# Altium footprint library Connectors.PcbLib: 32 footprints (part 1 of 2)
Each footprint in its own frame and in the unit in brackets; x right, y up, seen from the top. Pads: shape width x height; smd on the part's side, far side on the other; paste and mask are expansions set on the pad; w line width, h text height; cw(c..) or ccw(c..) is an arc to the next point about the centre after c.
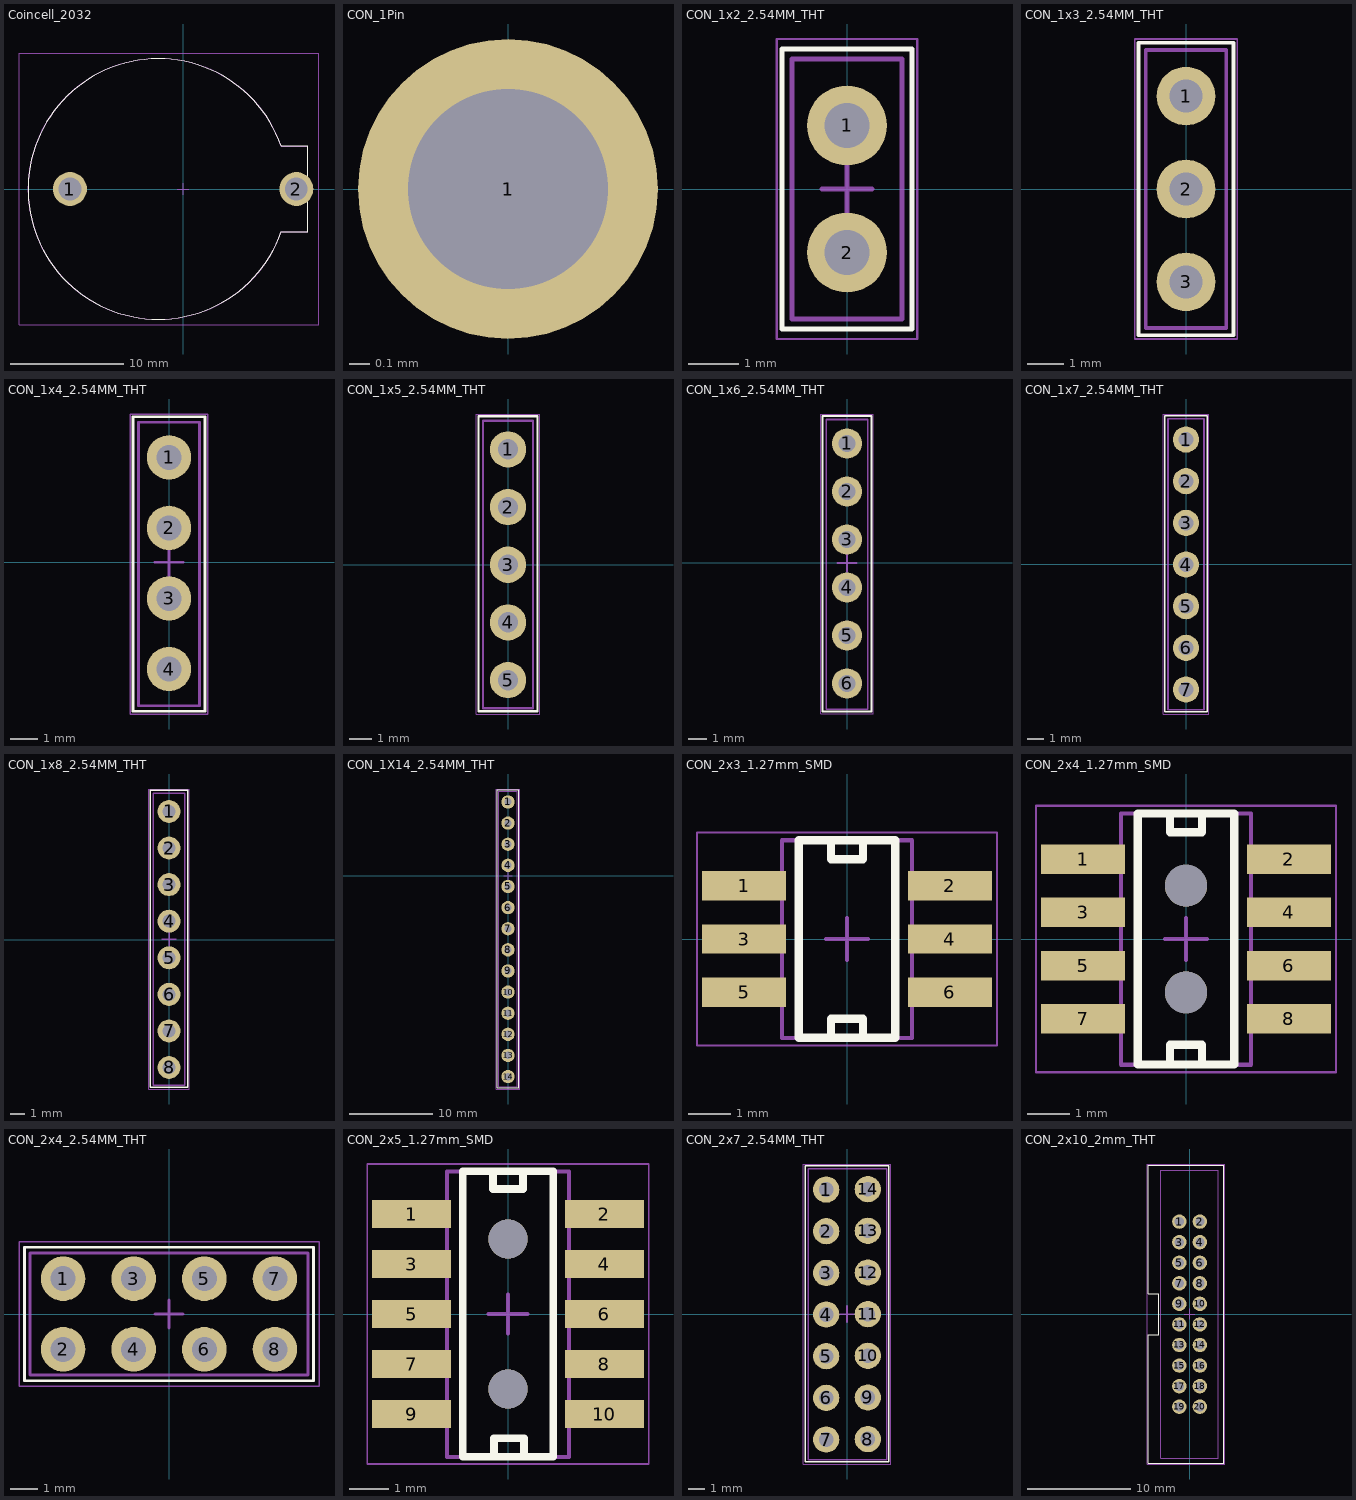
[diagram p0: the footprints below, top view; thin cyan lines are the x and y axes]

## Coincell_2032 [mm]
pads (2):
  round 3 hole 2: 1(-10,0) 2(10,0)
Top Overlay:
  lines w0.1: 8.65,3.818 ccw(c-2.2,0) 8.66,-3.786 11,-3.786 11,3.818 8.65,3.818
Mechanical 13:
  lines w0.1: 8.667,-3.789 cw(c-2.2,0) 8.667,3.789 11,3.789 11,-3.789 8.667,-3.789
Mechanical 15:
  lines w0.05: -14.5,-12 -14.5,12 12,12 12,-12 -14.5,-12
  lines w0.1: -0.5,0 -0.3,0 0.5,0 ; 0,-0.5 0,0.5
3D body: height 7.7, standoff 0.5, extent 7.9,-3.8 11,3.804
3D body: height 8.2, standoff 0.5, extent -13.7,-11.497 9.3,11.497

## CON_1Pin [mm]
pads (1):
  round 1.5 hole 1: 1(0,0)

## CON_1x2_2.54MM_THT [mm] "Chip Resistor, 2-Leads, Body 5,20x3,30mm, IPC Medium Density"
height 1.4
pads (2):
  round 1.6 hole 0.9: 1(0,1.27) 2(0,-1.27)
Top Overlay:
  lines w0.1: -1.3,-2.8 1.3,-2.8 1.3,2.8 -1.3,2.8 -1.3,-2.8
Mechanical 13:
  lines w0.1: -1.1,-2.6 1.1,-2.6 1.1,2.6 -1.1,2.6 -1.1,-2.6
Mechanical 15:
  lines w0.05: -1.4,-3 1.4,-3 1.4,3 -1.4,3 -1.4,-3
  lines w0.1: -0.5,0 0.5,0 ; 0,-0.5 0,0.5
3D body: height 6.3, standoff 0.1, extent -1,-2.5 1,2.5

## CON_1x3_2.54MM_THT [mm] "Chip Resistor, 2-Leads, Body 5,20x3,30mm, IPC Medium Density"
height 1.4
pads (3):
  round 1.6 hole 0.9: 1(0,2.54) 2(0,0) 3(0,-2.54)
Top Overlay:
  lines w0.1: -1.3,-4 1.3,-4 1.3,4 -1.3,4 -1.3,-4
Mechanical 13:
  lines w0.1: -1.1,-3.8 1.1,-3.8 1.1,3.8 -1.1,3.8 -1.1,-3.8
Mechanical 15:
  lines w0.05: -1.4,-4.1 1.4,-4.1 1.4,4.1 -1.4,4.1 -1.4,-4.1
  lines w0.1: -0.5,0 0.5,0 ; 0,-0.5 0,0.5
3D body: height 6.3, standoff 0.1, extent -1,-3.7 1,3.7

## CON_1x4_2.54MM_THT [mm] "Chip Resistor, 2-Leads, Body 5,20x3,30mm, IPC Medium Density"
height 1.4
pads (4):
  round 1.6 hole 0.9: 1(0,3.78) 2(0,1.24) 3(0,-1.3) 4(0,-3.84)
Top Overlay:
  lines w0.1: -1.3,-5.36 1.3,-5.36 1.3,5.24 -1.3,5.24 -1.3,-5.36
Mechanical 13:
  lines w0.1: -1.1,-5.16 1.1,-5.16 1.1,5.04 -1.1,5.04 -1.1,-5.16
Mechanical 15:
  lines w0.05: -1.4,-5.46 1.4,-5.46 1.4,5.34 -1.4,5.34 -1.4,-5.46
  lines w0.1: -0.5,0 0.5,0 ; 0,-0.5 0,0.5
3D body: height 6.3, standoff 0.1, extent -1,-5.06 1,4.94

## CON_1x5_2.54MM_THT [mm]
height 1.4
pads (5):
  round 1.6 hole 0.9: 1(0,5.08) 2(0,2.54) 3(0,0) 4(0,-2.54) 5(0,-5.08)
Top Overlay:
  lines w0.1: -1.3,-6.447 -1.3,6.54 1.3,6.54 1.3,-6.447 -1.3,-6.447
Mechanical 13:
  lines w0.1: -1.1,-6.32 -1.1,6.34 1.1,6.34 1.1,-6.32 -1.1,-6.32
Mechanical 15:
  lines w0.05: -1.4,-6.574 -1.4,6.64 1.4,6.64 1.4,-6.574 -1.4,-6.574
  lines w0.1: -0.5,0.03 0.5,0.03 ; 0,-0.47 0,0.53
3D body: height 6.3, standoff 0.1, extent -1,-6.244 1,6.24

## CON_1x6_2.54MM_THT [mm]
height 1.4
pads (6):
  round 1.6 hole 0.9: 1(0,6.32) 2(0,3.78) 3(0,1.24) 4(0,-1.3) 5(0,-3.84) 6(0,-6.38)
Top Overlay:
  lines w0.1: -1.3,-7.874 1.3,-7.874 1.3,7.78 -1.3,7.78 -1.3,-7.874
Mechanical 13:
  lines w0.1: -1.1,-7.747 -1.1,7.58 1.1,7.58 1.1,-7.747 -1.1,-7.747
Mechanical 15:
  lines w0.05: -1.4,-8.001 1.4,-8.001 1.4,7.88 -1.4,7.88 -1.4,-8.001
  lines w0.1: -0.5,0 0.5,0 ; 0,-0.5 0,0.5
3D body: height 6.3, standoff 0.1, extent -1,-7.62 1,7.48

## CON_1x7_2.54MM_THT [mm]
height 1.4
pads (7):
  round 1.6 hole 0.9: 1(0,7.596) 2(0,5.056) 3(0,2.516) 4(0,-0.024) 5(0,-2.564) 6(0,-5.104) 7(0,-7.644)
Top Overlay:
  lines w0.1: -1.3,-9.011 1.3,-9.011 1.3,9.056 -1.3,9.056 -1.3,-9.011
Mechanical 13:
  lines w0.1: -1.1,-8.884 1.1,-8.884 1.1,8.856 -1.1,8.856 -1.1,-8.884
Mechanical 15:
  lines w0.05: -1.4,-9.138 1.4,-9.138 1.4,9.156 -1.4,9.156 -1.4,-9.138
  lines w0.1: -0.5,0.006 0.5,0.006 ; 0,-0.493 0,0.507
3D body: height 6.3, standoff 0.1, extent -1,-8.757 1,8.757

## CON_1x8_2.54MM_THT [mm] "Chip Resistor, 2-Leads, Body 5,20x3,30mm, IPC Medium Density"
height 1.4
pads (8):
  round 1.6 hole 0.9: 1(0,8.911) 2(0,6.371) 3(0,3.831) 4(0,1.291) 5(0,-1.249) 6(0,-3.789) 7(0,-6.329) 8(0,-8.869)
Top Overlay:
  lines w0.1: -1.3,-10.236 -1.3,10.371 1.3,10.371 1.3,-10.236 -1.3,-10.236
Mechanical 13:
  lines w0.1: -1.1,-10.109 -1.1,10.171 1.1,10.171 1.1,-10.109 -1.1,-10.109
Mechanical 15:
  lines w0.05: -1.4,-10.363 -1.4,10.471 1.4,10.471 1.4,-10.363 -1.4,-10.363
  lines w0.1: -0.5,0.051 0.5,0.051 ; 0,-0.449 0,0.551
3D body: height 6.3, standoff 0.1, extent -1,-9.982 1,10.071

## CON_1X14_2.54MM_THT [mm]
pads (14):
  round 1.6 hole 0.9: 1(0,8.86) 2(0,6.32) 3(0,3.78) 4(0,1.24) 5(0,-1.3) 6(0,-3.84) 7(0,-6.38) 8(0,-8.92) 9(0,-11.46) 10(0,-14) 11(0,-16.54) 12(0,-19.08) 13(0,-21.62) 14(0,-24.16)
Top Overlay:
  lines w0.1: -1.3,-25.527 1.3,-25.527 1.3,10.32 -1.3,10.32 -1.3,-25.527
Mechanical 13:
  lines w0.1: -1.1,-25.4 -1.1,10.12 1.1,10.12 1.1,-25.4 -1.1,-25.4
Mechanical 15:
  lines w0.05: -1.4,-25.654 1.4,-25.654 1.4,10.42 -1.4,10.42 -1.4,-25.654
  lines w0.1: -0.5,0 0.5,0 ; 0,-0.5 0,0.5
3D body: height 6.3, standoff 0.1, extent -1,-25.273 1,10.02

## CON_2x3_1.27mm_SMD [mm]
pads (6):
  rect 2x0.7 smd: 1(-2.45,1.27) 2(2.45,1.27) 3(-2.45,0) 4(2.45,0) 5(-2.45,-1.27) 6(2.45,-1.27)
Top Overlay:
  lines w0.2: -0.381,-2.355 -0.381,-1.905 0.381,-1.905 0.381,-2.355 ; -0.381,2.355 -0.381,1.905 0.381,1.905 0.381,2.355 ; -1.15,-2.355 -1.15,2.355 1.15,2.355 1.15,-2.355 -1.15,-2.355
Mechanical 13:
  lines w0.1: -1.55,-2.362 -1.55,2.355 1.55,2.355 1.55,-2.362 -1.55,-2.362
Mechanical 15:
  lines w0.05: -3.575,-2.54 -3.575,2.54 3.575,2.54 3.575,-2.54 -3.575,-2.54
  lines w0.1: -0.5,0 0.5,0 ; 0,-0.5 0,0.5
3D body: height 4.8, standoff 1.3, extent -1.55,-2.355 1.55,2.355

## CON_2x4_1.27mm_SMD [mm]
pads (10):
  rect 2x0.7 smd: 1(-2.45,1.905) 2(2.45,1.905) 3(-2.45,0.635) 4(2.45,0.635) 5(-2.45,-0.635) 6(2.45,-0.635) 7(-2.45,-1.905) 8(2.45,-1.905)
  round 1 hole 1 unplated: ""(0,-1.27) ""(0,1.27)
Top Overlay:
  lines w0.2: -0.381,-2.968 -0.381,-2.518 0.381,-2.518 0.381,-2.968 ; -0.381,2.99 -0.381,2.54 0.381,2.54 0.381,2.99 ; -1.15,-2.99 1.15,-2.99 1.15,2.99 -1.15,2.99 -1.15,-2.99
Mechanical 13:
  lines w0.1: -1.55,-2.997 -1.55,2.99 1.55,2.99 1.55,-2.997 -1.55,-2.997
Mechanical 15:
  lines w0.05: -3.575,-3.175 -3.575,3.175 3.575,3.175 3.575,-3.175 -3.575,-3.175
  lines w0.1: -0.5,0 0.5,0 ; 0,-0.5 0,0.5
3D body: height 4.8, standoff 1.3, extent -1.55,-2.997 1.55,2.99

## CON_2x4_2.54MM_THT [mm]
height 1.4
pads (8):
  round 1.6 hole 0.9: 1(-3.81,1.27) 2(-3.81,-1.27) 3(-1.27,1.27) 4(-1.27,-1.27) 5(1.27,1.27) 6(1.27,-1.27) 7(3.81,1.27) 8(3.81,-1.27)
Top Overlay:
  lines w0.1: -5.2,-2.4 -5.2,2.4 5.2,2.4 5.2,-2.4 -5.2,-2.4
Mechanical 13:
  lines w0.1: -5,-2.2 -5,2.2 5,2.2 5,-2.2 -5,-2.2
Mechanical 15:
  lines w0.05: -5.4,-2.6 -5.4,2.6 5.4,2.6 5.4,-2.6 -5.4,-2.6
  lines w0.1: -0.5,0 0.5,0 ; 0,-0.5 0,0.5
3D body: height 8.3, standoff -3, extent 3.51,0.97 4.11,1.57
3D body: height 8.3, standoff -3, extent 3.51,-1.57 4.11,-0.97
3D body: height 8.3, standoff -3, extent 0.97,0.97 1.57,1.57
3D body: height 8.3, standoff -3, extent 0.97,-1.57 1.57,-0.97
3D body: height 8.3, standoff -3, extent -1.57,0.97 -0.97,1.57
3D body: height 8.3, standoff -3, extent -1.57,-1.57 -0.97,-0.97
3D body: height 8.3, standoff -3, extent -4.11,0.97 -3.51,1.57
3D body: height 8.3, standoff -3, extent -4.11,-1.57 -3.51,-0.97
3D body: height 2.4, standoff 0.1, extent -5,-2.2 5,2.2

## CON_2x5_1.27mm_SMD [mm]
pads (12):
  rect 2x0.7 smd: 1(-2.45,2.54) 2(2.45,2.54) 3(-2.45,1.27) 4(2.45,1.27) 5(-2.45,0) 6(2.45,0) 7(-2.45,-1.27) 8(2.45,-1.27) 9(-2.45,-2.54) 10(2.45,-2.54)
  round 1 hole 1 unplated: ""(0,-1.905) ""(0,1.905)
Top Overlay:
  lines w0.2: -0.381,3.625 -0.381,3.175 0.381,3.175 0.381,3.625 ; -0.356,-3.607 -0.356,-3.157 0.406,-3.157 0.406,-3.607 ; -1.15,-3.625 1.15,-3.625 1.15,3.625 -1.15,3.625 -1.15,-3.625
Mechanical 13:
  lines w0.1: -1.55,-3.632 -1.55,3.625 1.55,3.625 1.55,-3.632 -1.55,-3.632
Mechanical 15:
  lines w0.05: -3.575,-3.81 -3.575,3.81 3.575,3.81 3.575,-3.81 -3.575,-3.81
  lines w0.1: -0.5,0 0.5,0 ; 0,-0.5 0,0.5
3D body: height 4.8, standoff 1.3, extent -1.55,-3.632 1.55,3.625

## CON_2x7_2.54MM_THT [mm]
height 1.4
pads (14):
  round 1.6 hole 0.9: 1(-1.27,7.596) 2(-1.27,5.056) 3(-1.27,2.516) 4(-1.27,-0.024) 5(-1.27,-2.564) 6(-1.27,-5.104) 7(-1.27,-7.644) 8(1.27,-7.62) 9(1.27,-5.08) 10(1.27,-2.54) 11(1.27,0) 12(1.27,2.54) 13(1.27,5.08) 14(1.27,7.62)
Top Overlay:
  lines w0.1: -2.54,-9.011 -2.54,9.056 2.54,9.056 2.54,-9.011 -2.54,-9.011
Mechanical 13:
  lines w0.1: -2.37,-8.884 -2.37,8.856 2.413,8.856 2.413,-8.884 -2.37,-8.884
Mechanical 15:
  lines w0.05: -2.67,-9.138 -2.67,9.156 2.667,9.156 2.667,-9.138 -2.67,-9.138
  lines w0.1: -0.492,0 0.508,0 ; 0,-0.493 0,0.507
3D body: height 6.3, standoff 0.1, extent -2.27,-8.757 2.286,8.757

## CON_2x10_2mm_THT [mm]
pads (20):
  round 1.4 hole 0.9: 1(-1.001,8.993) 2(0.999,8.993) 3(-1.001,6.993) 4(0.999,6.993) 5(-1.001,4.993) 6(0.999,4.993) 7(-1.001,2.993) 8(0.999,2.993) 9(-1.001,0.993) 10(0.999,0.993) 11(-1.001,-1.007) 12(0.999,-1.007) 13(-1.001,-3.007) 14(0.999,-3.007) 15(-1.001,-5.007) 16(0.999,-5.007) 17(-1.001,-7.007) 18(0.999,-7.007) 19(-1.001,-9.007) 20(0.999,-9.007)
Top Overlay:
  lines w0.1: -4.001,-14.515 -4.001,-14.326 -4.001,-2.07 -4.001,-2.006 -3.001,-2.006 -3.001,1.994 -4.001,1.994 -4.001,14.493 3.299,14.493 3.299,-14.326 3.299,-14.515 -4.001,-14.515
Mechanical 13:
  lines w0.1: -2.801,-14.008 -2.801,13.993 2.799,13.993 2.799,-14.008 ; -2.801,-14.007 2.799,-14.007
Mechanical 15:
  lines w0.05: -4.101,-14.58 3.399,-14.58 3.399,14.593 -4.101,14.593 -4.101,-14.58
  lines w0.1: -0.508,0 0.492,0 ; 0,-0.492 0,0.508
3D body: height 5.65, standoff 0.1, extent -2.802,13.693 2.799,13.993
3D body: height 5.5, standoff -2.8, extent -1.201,8.793 -0.801,9.193
3D body: height 5.5, standoff -2.8, extent 0.799,8.793 1.199,9.193
3D body: height 5.65, standoff 0.1, extent -2.802,1.994 -2.502,13.993
3D body: height 5.5, standoff -2.8, extent -1.201,6.793 -0.801,7.193
3D body: height 5.5, standoff -2.8, extent 0.799,6.793 1.199,7.193
3D body: height 5.5, standoff -2.8, extent -1.201,4.793 -0.801,5.193
3D body: height 5.5, standoff -2.8, extent 0.799,4.793 1.199,5.193
3D body: height 5.5, standoff -2.8, extent -1.201,2.793 -0.801,3.193
3D body: height 5.5, standoff -2.8, extent 0.799,2.793 1.199,3.193
3D body: height 5.5, standoff -2.8, extent -1.201,0.793 -0.801,1.193
3D body: height 5.5, standoff -2.8, extent 0.799,0.793 1.199,1.193
3D body: height 1.4, standoff 0.1, extent -2.802,-14.008 2.799,13.993
3D body: height 5.65, standoff 0.1, extent 2.498,-14.008 2.799,13.993
3D body: height 5.5, standoff -2.8, extent -1.201,-1.207 -0.801,-0.807
3D body: height 5.5, standoff -2.8, extent 0.799,-1.207 1.199,-0.807
3D body: height 5.5, standoff -2.8, extent -1.201,-3.207 -0.801,-2.807
3D body: height 5.5, standoff -2.8, extent 0.799,-3.207 1.199,-2.807
3D body: height 5.5, standoff -2.8, extent -1.201,-5.207 -0.801,-4.807
3D body: height 5.5, standoff -2.8, extent 0.799,-5.207 1.199,-4.807
3D body: height 5.5, standoff -2.8, extent -1.201,-7.207 -0.801,-6.807
3D body: height 5.5, standoff -2.8, extent 0.799,-7.207 1.199,-6.807
3D body: height 5.65, standoff 0.1, extent -2.802,-14.008 -2.502,-2.007
3D body: height 5.5, standoff -2.8, extent -1.201,-9.207 -0.801,-8.807
3D body: height 5.5, standoff -2.8, extent 0.799,-9.207 1.199,-8.807
3D body: height 5.65, standoff 0.1, extent -2.8,-14.031 2.8,-13.731